# EAGLE library part BAS21AVD (library nxp_60_1_1)
High-voltage switching diodes Triple high-voltage switching diodes, encapsulated in a SOT457 (SC-74) small Surface-Mounted Device (SMD) plastic package. AAL Eindhoven MK
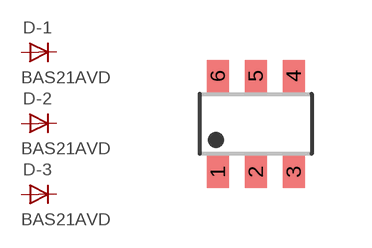
[diagram p80: symbol with the pads of SOT457; footprint SOT457]

Designator prefix D; gates -1=DIODE -2=DIODE -3=DIODE

## BAS21AVD  [SOT457]
1  -1:A  pas
2  -2:A  pas
3  -3:A  pas
4  -3:K  pas
5  -2:K  pas
6  -1:K  pas

## Footprint SOT457 (pad centres in mm)
SOT457 TSOP6: Plastic surface-mounted package; 6 lead JEIDA: SC73 A.K.A. SOT23-6
smd 0.55 x 0.8: 1 -0.95,-1.2; 2 0,-1.2; 3 0.95,-1.2; 4 0.95,1.2; 5 0,1.2; 6 -0.95,1.2